# Altium footprint library Display.PcbLib: 3 footprints
Each footprint in its own frame and in the unit in brackets; x right, y up, seen from the top. Pads: shape width x height; smd on the part's side, far side on the other; paste and mask are expansions set on the pad; w line width, h text height; cw(c..) or ccw(c..) is an arc to the next point about the centre after c.
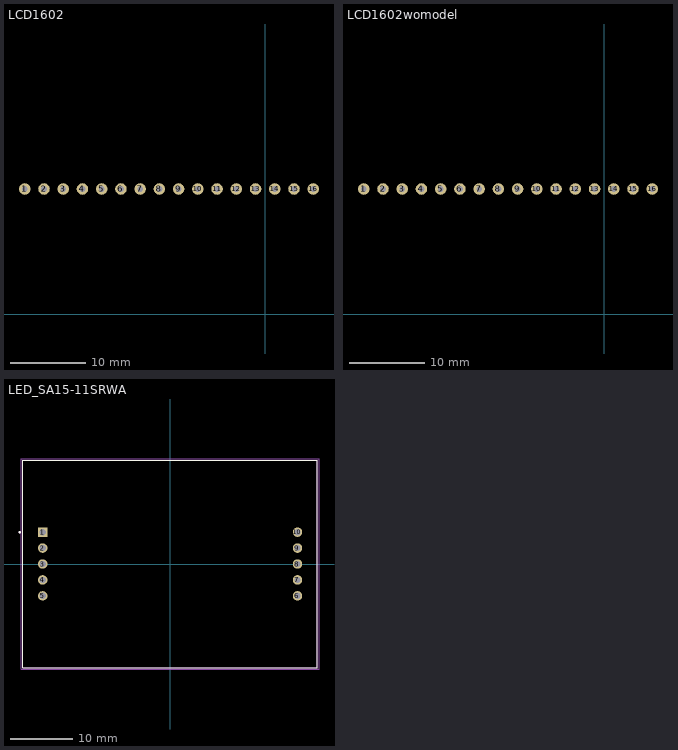
[diagram p0: the footprints below, top view; thin cyan lines are the x and y axes]

## LCD1602 [mil]
pads (16):
  round 60 hole 30: 1(-1250,650) 2(-1150,650) 3(-1050,650) 4(-950,650) 5(-850,650) 6(-750,650) 7(-650,650) 8(-550,650) 9(-450,650) 10(-350,650) 11(-250,650) 12(-150,650) 13(-50,650) 14(50,650) 15(150,650) 16(250,650)
3D body "LCD1602.step": height 635.04, standoff 160.63, extent -1569.8,-685 1579.8,732.32

## LCD1602womodel [mil]
pads (16):
  round 60 hole 30: 1(-1250,650) 2(-1150,650) 3(-1050,650) 4(-950,650) 5(-850,650) 6(-750,650) 7(-650,650) 8(-550,650) 9(-450,650) 10(-350,650) 11(-250,650) 12(-150,650) 13(-50,650) 14(50,650) 15(150,650) 16(250,650)

## LED_SA15-11SRWA [mm]
height 12.5
pads (10):
  rect 1.508x1.508 / inner round 1.508 / far side rect 1.508x1.508 hole 1: 1(-20.32,5.08)
  round 1.508 hole 1: 2(-20.32,2.54) 3(-20.32,0) 4(-20.32,-2.54) 5(-20.32,-5.08) 6(20.32,-5.08) 7(20.32,-2.54) 8(20.32,0) 9(20.32,2.54) 10(20.32,5.08)
Top Overlay:
  circle w0.2: c-24,5.08 r0.1
  lines w0.127: -23.5,-16.575 -23.5,16.575 23.5,16.575 23.5,-16.575 -23.5,-16.575
Mechanical 13:
  circle w0.2: c-24,5.08 r0.1
  lines w0.127: -23.5,-16.575 -23.5,16.575 23.5,16.575 23.5,-16.575 -23.5,-16.575
Mechanical 15:
  lines w0.05: -23.75,-16.825 -23.75,16.825 23.75,16.825 23.75,-16.825 -23.75,-16.825
3D body "step_temp.STEP": height 12.5, standoff -4.5, extent -23.5,-16.575 23.5,16.575